# Altium schematic symbol library Connectors.SchLib: 114 symbols (part 1 of 2)
Pins are listed as number, name and electrical type; pins without a type are passive.

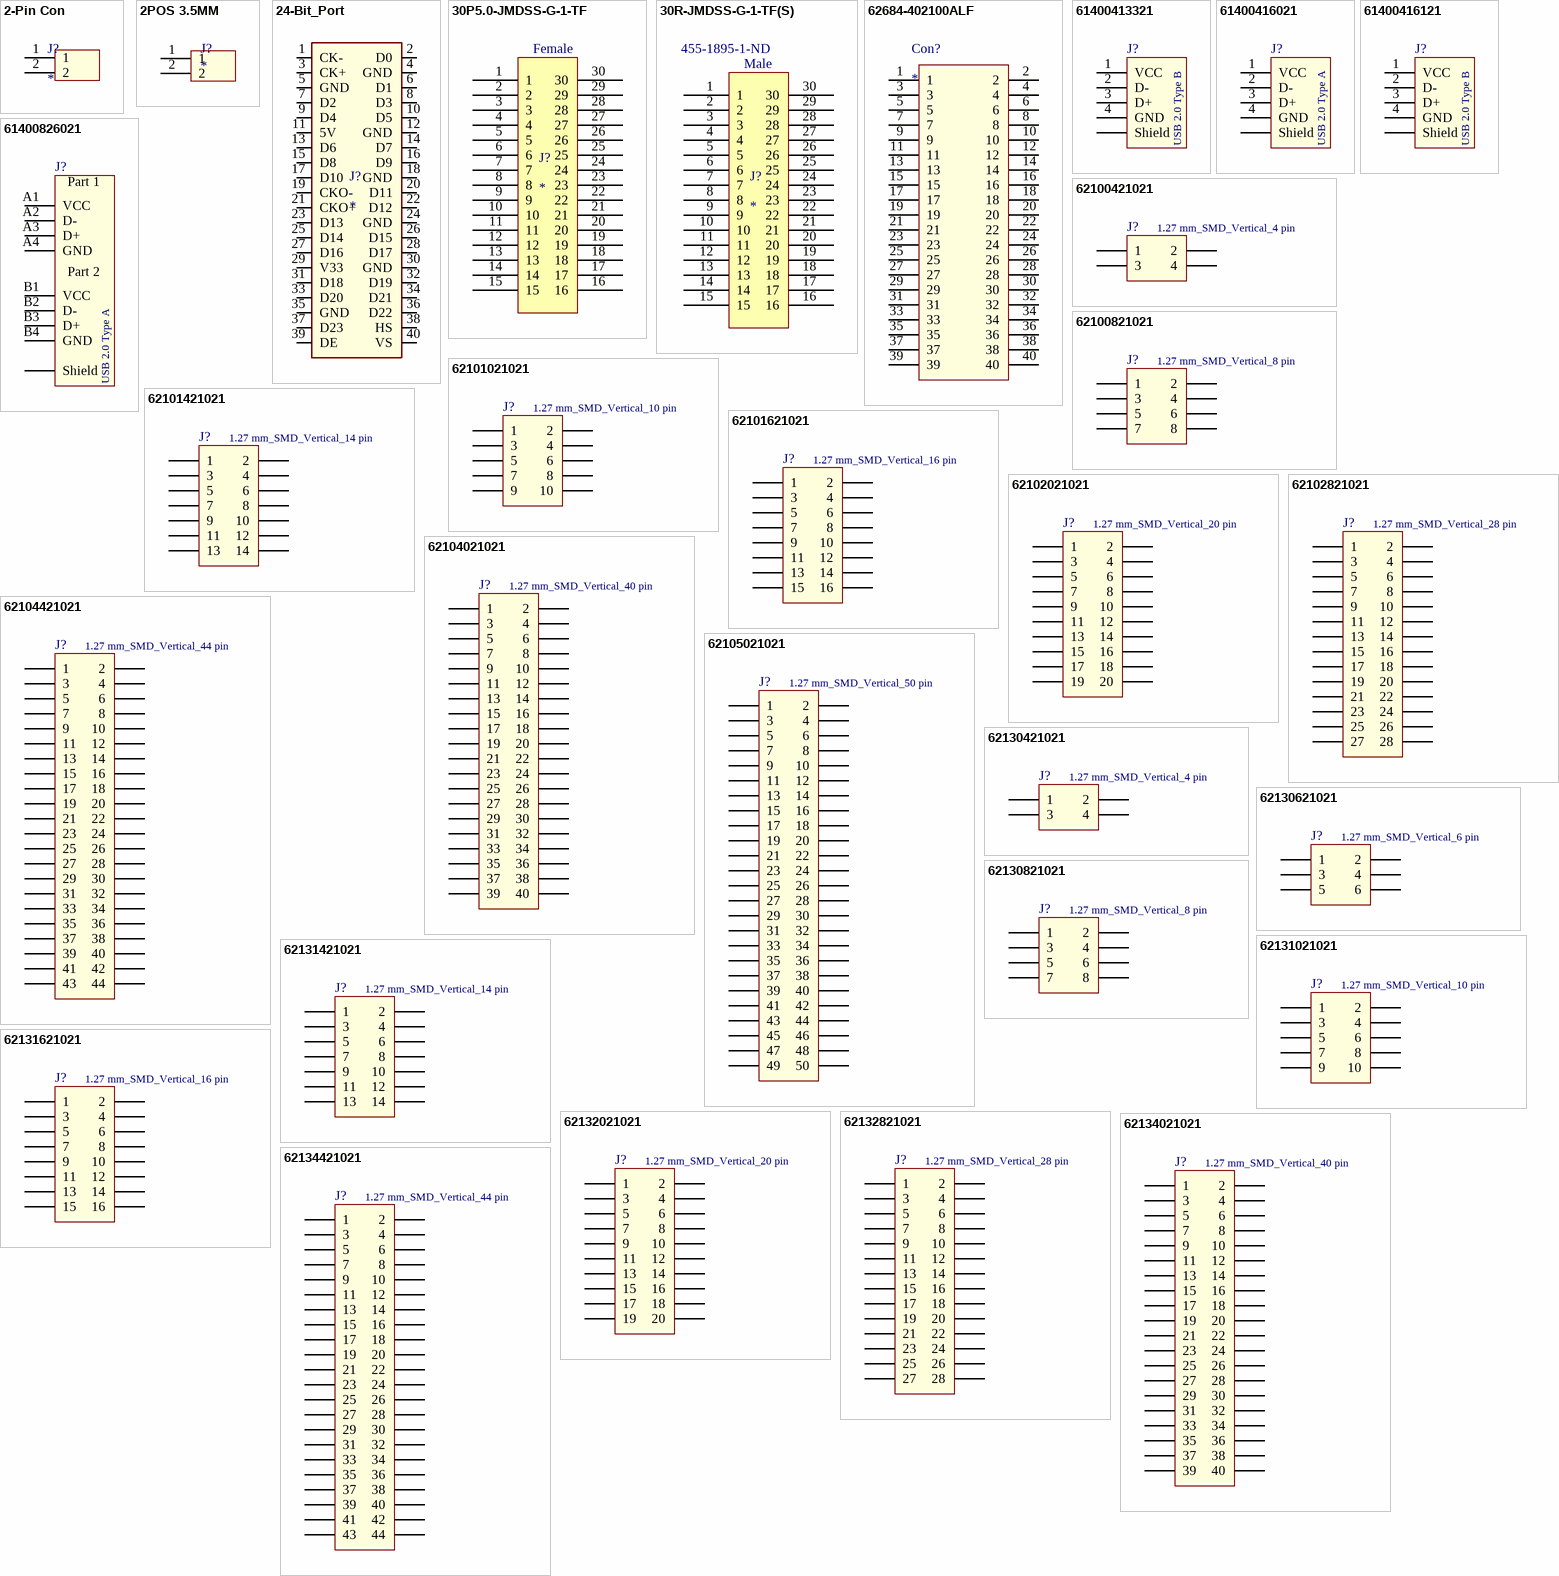
[diagram p0: symbols 2-Pin Con to 62134421021]

## 2-Pin Con
designator J?
footprint JST_S2B-XH-A(LF)(SN)
pins: 1, 2

## 2POS 3.5MM
designator J?
footprint 1-2834019-2
pins: 1, 2

## 24-Bit_Port
designator J?
footprint Header_40_pin
footprint Header_40_pin
pins: 1 CK-, 2 D0, 3 CK+, 4 GND, 5 GND, 6 D1, 7 D2, 8 D3, 9 D4, 10 D5, 11 5V, 12 GND, 13 D6, 14 D7, 15 D8, 16 D9, 17 D10, 18 GND, 19 CKO-, 20 D11, 21 CKO+, 22 D12, 23 D13, 24 GND, 25 D14, 26 D15, 27 D16, 28 D17, 29 V33, 30 GND, 31 D18, 32 D19, 33 D20, 34 D21, 35 GND, 36 D22, 37 D23, 38 HS, 39 DE, 40 VS

## 30P5.0-JMDSS-G-1-TF
designator J?
footprint 30P5.0-JMDSS-G-1-TF
pins: 1, 2, 3, 4, 5, 6, 7, 8, 9, 10, 11, 12, 13, 14, 15, 16, 17, 18, 19, 20, 21, 22, 23, 24, 25, 26, 27, 28, 29, 30
text: Female

## 30R-JMDSS-G-1-TF(S)
designator J?  Supplier Part Number 1: 455-1895-1-ND
Supplier 1: Digi-Key
footprint 30R-JMDSS-G-1-TF(S) (JST Connector)
pins: 1, 2, 3, 4, 5, 6, 7, 8, 9, 10, 11, 12, 13, 14, 15, 16, 17, 18, 19, 20, 21, 22, 23, 24, 25, 26, 27, 28, 29, 30
text: Male

## 62684-402100ALF
designator Con?
footprint 62684-402100ALF
pins: 1, 2, 3, 4, 5, 6, 7, 8, 9, 10, 11, 12, 13, 14, 15, 16, 17, 18, 19, 20, 21, 22, 23, 24, 25, 26, 27, 28, 29, 30, 31, 32, 33, 34, 35, 36, 37, 38, 39, 40

## 61400413321
designator J?
USB 2.0 Type B Vertical WR-COM; Part Number: 61400413321; Interface Type: Type B; Sub-Family: USB 2.0; Gender: Receptacle; ComponentLink1Description: Manufacturer; ComponentLink1URL: http://www.we-online.de; ComponentLink2Description: Datasheet; ComponentLink2URL: http://katalog.we-online.de/em/datasheet/61400413321.pdf; Published Date: April 2017; Publisher: Wurth Elektronik; Type: Vertical; Construction: THT
footprint 61400413321 (USB 2.0 Type B Vertical)
pins: 1 VCC, 2 D-, 3 D+, 4 GND, Shell Shield
text: USB 2.0 Type B

## 61400416021
designator J?
USB 2.0 Type A Horizontal WR-COM; Part Number: 61400416021; Interface Type: Type A; Sub-Family: USB 2.0; Gender: Receptacle; ComponentLink1Description: Manufacturer; ComponentLink1URL: http://www.we-online.de; ComponentLink2Description: Datasheet; ComponentLink2URL: http://katalog.we-online.de/em/datasheet/61400416021.pdf; Published Date: April 2017; Publisher: Wurth Elektronik; Type: Horizontal; Construction: THT
footprint 61400416021 (USB 2.0 Type A Horizontal)
pins: 1 VCC, 2 D-, 3 D+, 4 GND, Shell Shield
text: USB 2.0 Type A

## 61400416121
designator J?
USB 2.0 Type B Horizontal WR-COM; Part Number: 61400416121; Interface Type: Type B; Sub-Family: USB 2.0; Gender: Receptacle; ComponentLink1Description: Manufacturer; ComponentLink1URL: http://www.we-online.de; ComponentLink2Description: Datasheet; ComponentLink2URL: http://katalog.we-online.de/em/datasheet/61400416121.pdf; Published Date: April 2017; Publisher: Wurth Elektronik; Type: Horizontal; Construction: THT
footprint 61400416121 (USB 2.0 Type B Horizontal)
pins: 1 VCC, 2 D-, 3 D+, 4 GND, Shell Shield
text: USB 2.0 Type B

## 61400826021
designator J?
USB 2.0 Type A Horizontal Dual Stacked WR-COM; Part Number: 61400826021; Interface Type: Type A; Sub-Family: USB 2.0; Gender: Receptacle; ComponentLink1Description: Manufacturer; ComponentLink1URL: http://www.we-online.de; ComponentLink2Description: Datasheet; ComponentLink2URL: http://katalog.we-online.de/em/datasheet/61400826021.pdf; Published Date: April 2017; Publisher: Wurth Elektronik; Type: Stacked Horizontal; Construction: THT
footprint 61400826021 (USB 2.0 Type A Horizontal Dual Stacked)
pins: A1 VCC, A2 D-, A3 D+, A4 GND, B1 VCC, B2 D-, B3 D+, B4 GND, Shell Shield
text: Part 1; Part 2; USB 2.0 Type A

## 62100421021
designator J?, comment 1.27 mm_SMD_Vertical_4 pin
Pin Header WR-PHD, pitch 1.27 mm, SMD, Vertical, dual row, 4 pin; Part Number: 62100421021; Rated Current: 1 A; Pin Number: 4; Pitch: 1.27 mm; Working Voltage: 100 VAC; Contact Resistance: 20 mOhm; Insulation Resistance: >1000 MOhm; ComponentLink1Description: Manufacturer; ComponentLink1URL: http://www.we-online.de; ComponentLink2Description: Datasheet; ComponentLink2URL: http://katalog.we-online.de/em/datasheet/62100421021.pdf; Published Date: Jan. 2018; Publisher: Wurth Elektronik; Operating Temperature: -40 to 105 degC; Mounting Technology: SMD; Row Number: Dual; Orientation: Vertical
footprint 62100421021
pins: 1, 2, 3, 4

## 62100821021
designator J?, comment 1.27 mm_SMD_Vertical_8 pin
Pin Header WR-PHD, pitch 1.27 mm, SMD, Vertical, dual row, 8 pin; Part Number: 62100821021; Rated Current: 1 A; Pin Number: 8; Pitch: 1.27 mm; Working Voltage: 100 VAC; Contact Resistance: 20 mOhm; Insulation Resistance: >1000 MOhm; ComponentLink1Description: Manufacturer; ComponentLink1URL: http://www.we-online.de; ComponentLink2Description: Datasheet; ComponentLink2URL: http://katalog.we-online.de/em/datasheet/62100821021.pdf; Published Date: Jan. 2018; Publisher: Wurth Elektronik; Operating Temperature: -40 to 105 degC; Mounting Technology: SMD; Row Number: Dual; Orientation: Vertical
footprint 62100821021
pins: 1, 2, 3, 4, 5, 6, 7, 8

## 62101021021
designator J?, comment 1.27 mm_SMD_Vertical_10 pin
Pin Header WR-PHD, pitch 1.27 mm, SMD, Vertical, dual row, 10 pin; Part Number: 62101021021; Rated Current: 1 A; Pin Number: 10; Pitch: 1.27 mm; Working Voltage: 100 VAC; Contact Resistance: 20 mOhm; Insulation Resistance: >1000 MOhm; ComponentLink1Description: Manufacturer; ComponentLink1URL: http://www.we-online.de; ComponentLink2Description: Datasheet; ComponentLink2URL: http://katalog.we-online.de/em/datasheet/62101021021.pdf; Published Date: Jan. 2018; Publisher: Wurth Elektronik; Operating Temperature: -40 to 105 degC; Mounting Technology: SMD; Row Number: Dual; Orientation: Vertical
footprint 62101021021
pins: 1, 2, 3, 4, 5, 6, 7, 8, 9, 10

## 62101421021
designator J?, comment 1.27 mm_SMD_Vertical_14 pin
Pin Header WR-PHD, pitch 1.27 mm, SMD, Vertical, dual row, 14 pin; Part Number: 62101421021; Rated Current: 1 A; Pin Number: 14; Pitch: 1.27 mm; Working Voltage: 100 VAC; Contact Resistance: 20 mOhm; Insulation Resistance: >1000 MOhm; ComponentLink1Description: Manufacturer; ComponentLink1URL: http://www.we-online.de; ComponentLink2Description: Datasheet; ComponentLink2URL: http://katalog.we-online.de/em/datasheet/62101421021.pdf; Published Date: Jan. 2018; Publisher: Wurth Elektronik; Operating Temperature: -40 to 105 degC; Mounting Technology: SMD; Row Number: Dual; Orientation: Vertical
footprint 62101421021
pins: 1, 2, 3, 4, 5, 6, 7, 8, 9, 10, 11, 12, 13, 14

## 62101621021
designator J?, comment 1.27 mm_SMD_Vertical_16 pin
Pin Header WR-PHD, pitch 1.27 mm, SMD, Vertical, dual row, 16 pin; Part Number: 62101621021; Rated Current: 1 A; Pin Number: 16; Pitch: 1.27 mm; Working Voltage: 100 VAC; Contact Resistance: 20 mOhm; Insulation Resistance: >1000 MOhm; ComponentLink1Description: Manufacturer; ComponentLink1URL: http://www.we-online.de; ComponentLink2Description: Datasheet; ComponentLink2URL: http://katalog.we-online.de/em/datasheet/62101621021.pdf; Published Date: Jan. 2018; Publisher: Wurth Elektronik; Operating Temperature: -40 to 105 degC; Mounting Technology: SMD; Row Number: Dual; Orientation: Vertical
footprint 62101621021
pins: 1, 2, 3, 4, 5, 6, 7, 8, 9, 10, 11, 12, 13, 14, 15, 16

## 62102021021
designator J?, comment 1.27 mm_SMD_Vertical_20 pin
Pin Header WR-PHD, pitch 1.27 mm, SMD, Vertical, dual row, 20 pin; Part Number: 62102021021; Rated Current: 1 A; Pin Number: 20; Pitch: 1.27 mm; Working Voltage: 100 VAC; Contact Resistance: 20 mOhm; Insulation Resistance: >1000 MOhm; ComponentLink1Description: Manufacturer; ComponentLink1URL: http://www.we-online.de; ComponentLink2Description: Datasheet; ComponentLink2URL: http://katalog.we-online.de/em/datasheet/62102021021.pdf; Published Date: Jan. 2018; Publisher: Wurth Elektronik; Operating Temperature: -40 to 105 degC; Mounting Technology: SMD; Row Number: Dual; Orientation: Vertical
footprint 62102021021
pins: 1, 2, 3, 4, 5, 6, 7, 8, 9, 10, 11, 12, 13, 14, 15, 16, 17, 18, 19, 20

## 62102821021
designator J?, comment 1.27 mm_SMD_Vertical_28 pin
Pin Header WR-PHD, pitch 1.27 mm, SMD, Vertical, dual row, 28 pin; Part Number: 62102821021; Rated Current: 1 A; Pin Number: 28; Pitch: 1.27 mm; Working Voltage: 100 VAC; Contact Resistance: 20 mOhm; Insulation Resistance: >1000 MOhm; ComponentLink1Description: Manufacturer; ComponentLink1URL: http://www.we-online.de; ComponentLink2Description: Datasheet; ComponentLink2URL: http://katalog.we-online.de/em/datasheet/62102821021.pdf; Published Date: Jan. 2018; Publisher: Wurth Elektronik; Operating Temperature: -40 to 105 degC; Mounting Technology: SMD; Row Number: Dual; Orientation: Vertical
footprint 62102821021
pins: 1, 2, 3, 4, 5, 6, 7, 8, 9, 10, 11, 12, 13, 14, 15, 16, 17, 18, 19, 20, 21, 22, 23, 24, 25, 26, 27, 28

## 62104021021
designator J?, comment 1.27 mm_SMD_Vertical_40 pin
Pin Header WR-PHD, pitch 1.27 mm, SMD, Vertical, dual row, 40 pin; Part Number: 62104021021; Rated Current: 1 A; Pin Number: 40; Pitch: 1.27 mm; Working Voltage: 100 VAC; Contact Resistance: 20 mOhm; Insulation Resistance: >1000 MOhm; ComponentLink1Description: Manufacturer; ComponentLink1URL: http://www.we-online.de; ComponentLink2Description: Datasheet; ComponentLink2URL: http://katalog.we-online.de/em/datasheet/62104021021.pdf; Published Date: Jan. 2018; Publisher: Wurth Elektronik; Operating Temperature: -40 to 105 degC; Mounting Technology: SMD; Row Number: Dual; Orientation: Vertical
footprint 62104021021
pins: 1, 2, 3, 4, 5, 6, 7, 8, 9, 10, 11, 12, 13, 14, 15, 16, 17, 18, 19, 20, 21, 22, 23, 24, 25, 26, 27, 28, 29, 30, 31, 32, 33, 34, 35, 36, 37, 38, 39, 40

## 62104421021
designator J?, comment 1.27 mm_SMD_Vertical_44 pin
Pin Header WR-PHD, pitch 1.27 mm, SMD, Vertical, dual row, 44 pin; Part Number: 62104421021; Rated Current: 1 A; Pin Number: 44; Pitch: 1.27 mm; Working Voltage: 100 VAC; Contact Resistance: 20 mOhm; Insulation Resistance: >1000 MOhm; ComponentLink1Description: Manufacturer; ComponentLink1URL: http://www.we-online.de; ComponentLink2Description: Datasheet; ComponentLink2URL: http://katalog.we-online.de/em/datasheet/62104421021.pdf; Published Date: Jan. 2018; Publisher: Wurth Elektronik; Operating Temperature: -40 to 105 degC; Mounting Technology: SMD; Row Number: Dual; Orientation: Vertical
footprint 62104421021
pins: 1, 2, 3, 4, 5, 6, 7, 8, 9, 10, 11, 12, 13, 14, 15, 16, 17, 18, 19, 20, 21, 22, 23, 24, 25, 26, 27, 28, 29, 30, 31, 32, 33, 34, 35, 36, 37, 38, 39, 40, 41, 42, 43, 44

## 62105021021
designator J?, comment 1.27 mm_SMD_Vertical_50 pin
Pin Header WR-PHD, pitch 1.27 mm, SMD, Vertical, dual row, 50 pin; Part Number: 62105021021; Rated Current: 1 A; Pin Number: 50; Pitch: 1.27 mm; Working Voltage: 100 VAC; Contact Resistance: 20 mOhm; Insulation Resistance: >1000 MOhm; ComponentLink1Description: Manufacturer; ComponentLink1URL: http://www.we-online.de; ComponentLink2Description: Datasheet; ComponentLink2URL: http://katalog.we-online.de/em/datasheet/62105021021.pdf; Published Date: Jan. 2018; Publisher: Wurth Elektronik; Operating Temperature: -40 to 105 degC; Mounting Technology: SMD; Row Number: Dual; Orientation: Vertical
footprint 62105021021
pins: 1, 2, 3, 4, 5, 6, 7, 8, 9, 10, 11, 12, 13, 14, 15, 16, 17, 18, 19, 20, 21, 22, 23, 24, 25, 26, 27, 28, 29, 30, 31, 32, 33, 34, 35, 36, 37, 38, 39, 40, 41, 42, 43, 44, 45, 46, 47, 48, 49, 50

## 62130421021
designator J?, comment 1.27 mm_SMD_Vertical_4 pin
Pin Header WR-PHD, pitch 1.27 mm, SMD, Vertical, dual row, 4 pin; Part Number: 62130421021; Rated Current: 1 A; Pin Number: 4; Pitch: 1.27 mm; Working Voltage: 100 VAC; Contact Resistance: 20 mOhm; Insulation Resistance: >1000 MOhm; ComponentLink1Description: Manufacturer; ComponentLink1URL: http://www.we-online.de; ComponentLink2Description: Datasheet; ComponentLink2URL: http://katalog.we-online.de/em/datasheet/62130421021.pdf; Published Date: Jan. 2018; Publisher: Wurth Elektronik; Operating Temperature: -40 to 105 degC; Mounting Technology: SMD; Row Number: Dual; Orientation: Vertical
footprint 62130421021
pins: 1, 2, 3, 4

## 62130621021
designator J?, comment 1.27 mm_SMD_Vertical_6 pin
Pin Header WR-PHD, pitch 1.27 mm, SMD, Vertical, dual row, 6 pin; Part Number: 62130621021; Rated Current: 1 A; Pin Number: 6; Pitch: 1.27 mm; Working Voltage: 100 VAC; Contact Resistance: 20 mOhm; Insulation Resistance: >1000 MOhm; ComponentLink1Description: Manufacturer; ComponentLink1URL: http://www.we-online.de; ComponentLink2Description: Datasheet; ComponentLink2URL: http://katalog.we-online.de/em/datasheet/62130621021.pdf; Published Date: Jan. 2018; Publisher: Wurth Elektronik; Operating Temperature: -40 to 105 degC; Mounting Technology: SMD; Row Number: Dual; Orientation: Vertical
footprint 62130621021
pins: 1, 2, 3, 4, 5, 6

## 62130821021
designator J?, comment 1.27 mm_SMD_Vertical_8 pin
Pin Header WR-PHD, pitch 1.27 mm, SMD, Vertical, dual row, 8 pin; Part Number: 62130821021; Rated Current: 1 A; Pin Number: 8; Pitch: 1.27 mm; Working Voltage: 100 VAC; Contact Resistance: 20 mOhm; Insulation Resistance: >1000 MOhm; ComponentLink1Description: Manufacturer; ComponentLink1URL: http://www.we-online.de; ComponentLink2Description: Datasheet; ComponentLink2URL: http://katalog.we-online.de/em/datasheet/62130821021.pdf; Published Date: Jan. 2018; Publisher: Wurth Elektronik; Operating Temperature: -40 to 105 degC; Mounting Technology: SMD; Row Number: Dual; Orientation: Vertical
footprint 62130821021
pins: 1, 2, 3, 4, 5, 6, 7, 8

## 62131021021
designator J?, comment 1.27 mm_SMD_Vertical_10 pin
Pin Header WR-PHD, pitch 1.27 mm, SMD, Vertical, dual row, 10 pin; Part Number: 62131021021; Rated Current: 1 A; Pin Number: 10; Pitch: 1.27 mm; Working Voltage: 100 VAC; Contact Resistance: 20 mOhm; Insulation Resistance: >1000 MOhm; ComponentLink1Description: Manufacturer; ComponentLink1URL: http://www.we-online.de; ComponentLink2Description: Datasheet; ComponentLink2URL: http://katalog.we-online.de/em/datasheet/62131021021.pdf; Published Date: Jan. 2018; Publisher: Wurth Elektronik; Operating Temperature: -40 to 105 degC; Mounting Technology: SMD; Row Number: Dual; Orientation: Vertical
footprint 62131021021
pins: 1, 2, 3, 4, 5, 6, 7, 8, 9, 10

## 62131421021
designator J?, comment 1.27 mm_SMD_Vertical_14 pin
Pin Header WR-PHD, pitch 1.27 mm, SMD, Vertical, dual row, 14 pin; Part Number: 62131421021; Rated Current: 1 A; Pin Number: 14; Pitch: 1.27 mm; Working Voltage: 100 VAC; Contact Resistance: 20 mOhm; Insulation Resistance: >1000 MOhm; ComponentLink1Description: Manufacturer; ComponentLink1URL: http://www.we-online.de; ComponentLink2Description: Datasheet; ComponentLink2URL: http://katalog.we-online.de/em/datasheet/62131421021.pdf; Published Date: Jan. 2018; Publisher: Wurth Elektronik; Operating Temperature: -40 to 105 degC; Mounting Technology: SMD; Row Number: Dual; Orientation: Vertical
footprint 62131421021
pins: 1, 2, 3, 4, 5, 6, 7, 8, 9, 10, 11, 12, 13, 14

## 62131621021
designator J?, comment 1.27 mm_SMD_Vertical_16 pin
Pin Header WR-PHD, pitch 1.27 mm, SMD, Vertical, dual row, 16 pin; Part Number: 62131621021; Rated Current: 1 A; Pin Number: 16; Pitch: 1.27 mm; Working Voltage: 100 VAC; Contact Resistance: 20 mOhm; Insulation Resistance: >1000 MOhm; ComponentLink1Description: Manufacturer; ComponentLink1URL: http://www.we-online.de; ComponentLink2Description: Datasheet; ComponentLink2URL: http://katalog.we-online.de/em/datasheet/62131621021.pdf; Published Date: Jan. 2018; Publisher: Wurth Elektronik; Operating Temperature: -40 to 105 degC; Mounting Technology: SMD; Row Number: Dual; Orientation: Vertical
footprint 62131621021
pins: 1, 2, 3, 4, 5, 6, 7, 8, 9, 10, 11, 12, 13, 14, 15, 16

## 62132021021
designator J?, comment 1.27 mm_SMD_Vertical_20 pin
Pin Header WR-PHD, pitch 1.27 mm, SMD, Vertical, dual row, 20 pin; Part Number: 62132021021; Rated Current: 1 A; Pin Number: 20; Pitch: 1.27 mm; Working Voltage: 100 VAC; Contact Resistance: 20 mOhm; Insulation Resistance: >1000 MOhm; ComponentLink1Description: Manufacturer; ComponentLink1URL: http://www.we-online.de; ComponentLink2Description: Datasheet; ComponentLink2URL: http://katalog.we-online.de/em/datasheet/62132021021.pdf; Published Date: Jan. 2018; Publisher: Wurth Elektronik; Operating Temperature: -40 to 105 degC; Mounting Technology: SMD; Row Number: Dual; Orientation: Vertical
footprint 62132021021
pins: 1, 2, 3, 4, 5, 6, 7, 8, 9, 10, 11, 12, 13, 14, 15, 16, 17, 18, 19, 20

## 62132821021
designator J?, comment 1.27 mm_SMD_Vertical_28 pin
Pin Header WR-PHD, pitch 1.27 mm, SMD, Vertical, dual row, 28 pin; Part Number: 62132821021; Rated Current: 1 A; Pin Number: 28; Pitch: 1.27 mm; Working Voltage: 100 VAC; Contact Resistance: 20 mOhm; Insulation Resistance: >1000 MOhm; ComponentLink1Description: Manufacturer; ComponentLink1URL: http://www.we-online.de; ComponentLink2Description: Datasheet; ComponentLink2URL: http://katalog.we-online.de/em/datasheet/62132821021.pdf; Published Date: Jan. 2018; Publisher: Wurth Elektronik; Operating Temperature: -40 to 105 degC; Mounting Technology: SMD; Row Number: Dual; Orientation: Vertical
footprint 62132821021
pins: 1, 2, 3, 4, 5, 6, 7, 8, 9, 10, 11, 12, 13, 14, 15, 16, 17, 18, 19, 20, 21, 22, 23, 24, 25, 26, 27, 28

## 62134021021
designator J?, comment 1.27 mm_SMD_Vertical_40 pin
Pin Header WR-PHD, pitch 1.27 mm, SMD, Vertical, dual row, 40 pin; Part Number: 62134021021; Rated Current: 1 A; Pin Number: 40; Pitch: 1.27 mm; Working Voltage: 100 VAC; Contact Resistance: 20 mOhm; Insulation Resistance: >1000 MOhm; ComponentLink1Description: Manufacturer; ComponentLink1URL: http://www.we-online.de; ComponentLink2Description: Datasheet; ComponentLink2URL: http://katalog.we-online.de/em/datasheet/62134021021.pdf; Published Date: Jan. 2018; Publisher: Wurth Elektronik; Operating Temperature: -40 to 105 degC; Mounting Technology: SMD; Row Number: Dual; Orientation: Vertical
footprint 62134021021
pins: 1, 2, 3, 4, 5, 6, 7, 8, 9, 10, 11, 12, 13, 14, 15, 16, 17, 18, 19, 20, 21, 22, 23, 24, 25, 26, 27, 28, 29, 30, 31, 32, 33, 34, 35, 36, 37, 38, 39, 40

## 62134421021
designator J?, comment 1.27 mm_SMD_Vertical_44 pin
Pin Header WR-PHD, pitch 1.27 mm, SMD, Vertical, dual row, 44 pin; Part Number: 62134421021; Rated Current: 1 A; Pin Number: 44; Pitch: 1.27 mm; Working Voltage: 100 VAC; Contact Resistance: 20 mOhm; Insulation Resistance: >1000 MOhm; ComponentLink1Description: Manufacturer; ComponentLink1URL: http://www.we-online.de; ComponentLink2Description: Datasheet; ComponentLink2URL: http://katalog.we-online.de/em/datasheet/62134421021.pdf; Published Date: Jan. 2018; Publisher: Wurth Elektronik; Operating Temperature: -40 to 105 degC; Mounting Technology: SMD; Row Number: Dual; Orientation: Vertical
footprint 62134421021
pins: 1, 2, 3, 4, 5, 6, 7, 8, 9, 10, 11, 12, 13, 14, 15, 16, 17, 18, 19, 20, 21, 22, 23, 24, 25, 26, 27, 28, 29, 30, 31, 32, 33, 34, 35, 36, 37, 38, 39, 40, 41, 42, 43, 44

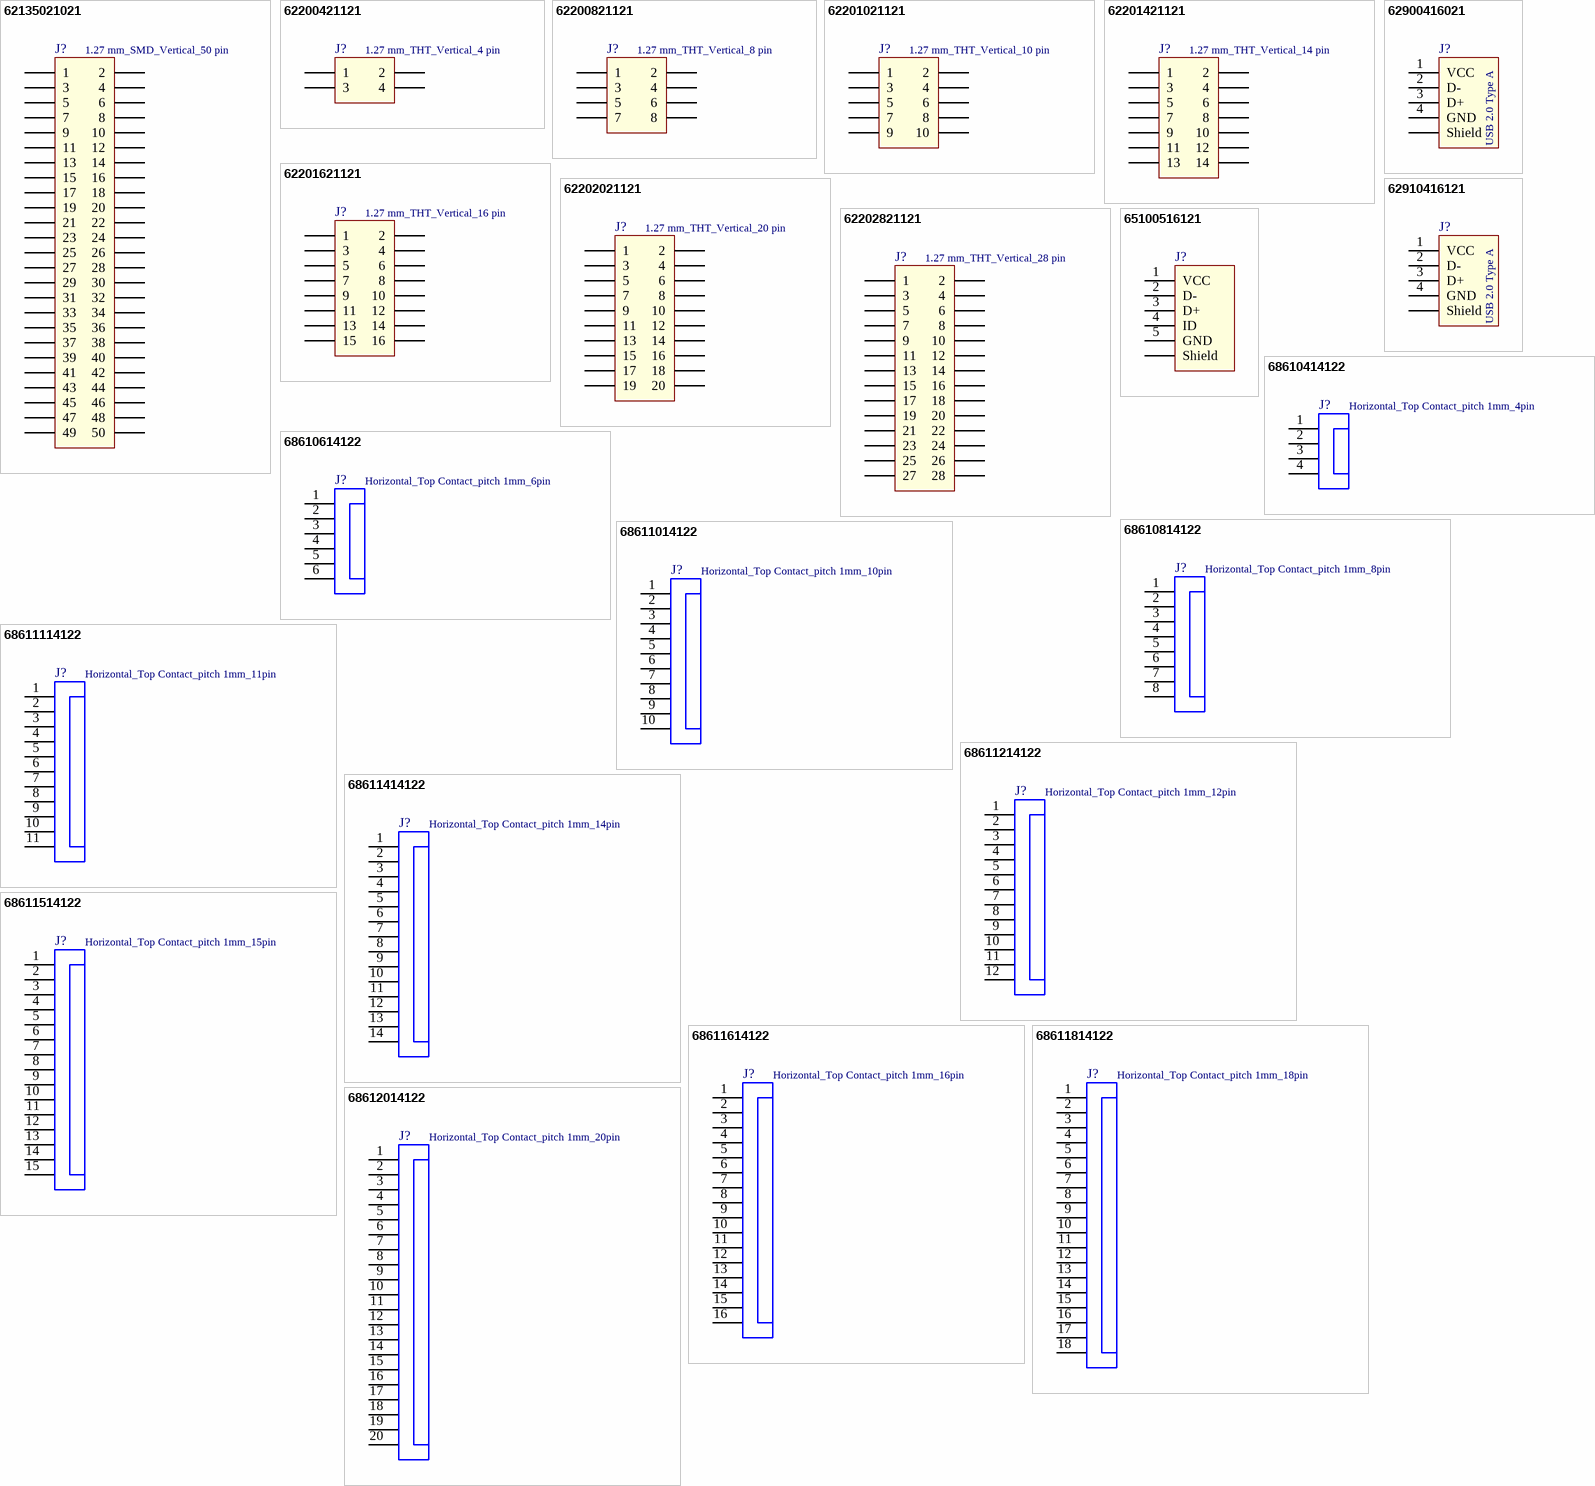
[diagram p1: symbols 62135021021 to 68612014122]

## 62135021021
designator J?, comment 1.27 mm_SMD_Vertical_50 pin
Pin Header WR-PHD, pitch 1.27 mm, SMD, Vertical, dual row, 50 pin; Part Number: 62135021021; Rated Current: 1 A; Pin Number: 50; Pitch: 1.27 mm; Working Voltage: 100 VAC; Contact Resistance: 20 mOhm; Insulation Resistance: >1000 MOhm; ComponentLink1Description: Manufacturer; ComponentLink1URL: http://www.we-online.de; ComponentLink2Description: Datasheet; ComponentLink2URL: http://katalog.we-online.de/em/datasheet/62135021021.pdf; Published Date: Jan. 2018; Publisher: Wurth Elektronik; Operating Temperature: -40 to 105 degC; Mounting Technology: SMD; Row Number: Dual; Orientation: Vertical
footprint 62135021021
pins: 1, 2, 3, 4, 5, 6, 7, 8, 9, 10, 11, 12, 13, 14, 15, 16, 17, 18, 19, 20, 21, 22, 23, 24, 25, 26, 27, 28, 29, 30, 31, 32, 33, 34, 35, 36, 37, 38, 39, 40, 41, 42, 43, 44, 45, 46, 47, 48, 49, 50

## 62200421121
designator J?, comment 1.27 mm_THT_Vertical_4 pin
Pin Header WR-PHD, pitch 1.27 mm, THT, Vertical, dual row, 4 pin; Part Number: 62200421121; Rated Current: 1 A; Pin Number: 4; Pitch: 1.27 mm; Working Voltage: 100 VAC; Contact Resistance: 20 mOhm; Insulation Resistance: >1000 MOhm; ComponentLink1Description: Manufacturer; ComponentLink1URL: http://www.we-online.de; ComponentLink2Description: Datasheet; ComponentLink2URL: http://katalog.we-online.de/em/datasheet/62200421121.pdf; Published Date: Jan. 2018; Publisher: Wurth Elektronik; Operating Temperature: -40 to 105 degC; Mounting Technology: THT; Row Number: Dual; Orientation: Vertical
footprint 62200421121
pins: 1, 2, 3, 4

## 62200821121
designator J?, comment 1.27 mm_THT_Vertical_8 pin
Pin Header WR-PHD, pitch 1.27 mm, THT, Vertical, dual row, 8 pin; Part Number: 62200821121; Rated Current: 1 A; Pin Number: 8; Pitch: 1.27 mm; Working Voltage: 100 VAC; Contact Resistance: 20 mOhm; Insulation Resistance: >1000 MOhm; ComponentLink1Description: Manufacturer; ComponentLink1URL: http://www.we-online.de; ComponentLink2Description: Datasheet; ComponentLink2URL: http://katalog.we-online.de/em/datasheet/62200821121.pdf; Published Date: Jan. 2018; Publisher: Wurth Elektronik; Operating Temperature: -40 to 105 degC; Mounting Technology: THT; Row Number: Dual; Orientation: Vertical
footprint 62200821121
pins: 1, 2, 3, 4, 5, 6, 7, 8

## 62201021121
designator J?, comment 1.27 mm_THT_Vertical_10 pin
Pin Header WR-PHD, pitch 1.27 mm, THT, Vertical, dual row, 10 pin; Part Number: 62201021121; Rated Current: 1 A; Pin Number: 10; Pitch: 1.27 mm; Working Voltage: 100 VAC; Contact Resistance: 20 mOhm; Insulation Resistance: >1000 MOhm; ComponentLink1Description: Manufacturer; ComponentLink1URL: http://www.we-online.de; ComponentLink2Description: Datasheet; ComponentLink2URL: http://katalog.we-online.de/em/datasheet/62201021121.pdf; Published Date: Jan. 2018; Publisher: Wurth Elektronik; Operating Temperature: -40 to 105 degC; Mounting Technology: THT; Row Number: Dual; Orientation: Vertical
footprint 62201021121
pins: 1, 2, 3, 4, 5, 6, 7, 8, 9, 10

## 62201421121
designator J?, comment 1.27 mm_THT_Vertical_14 pin
Pin Header WR-PHD, pitch 1.27 mm, THT, Vertical, dual row, 14 pin; Part Number: 62201421121; Rated Current: 1 A; Pin Number: 14; Pitch: 1.27 mm; Working Voltage: 100 VAC; Contact Resistance: 20 mOhm; Insulation Resistance: >1000 MOhm; ComponentLink1Description: Manufacturer; ComponentLink1URL: http://www.we-online.de; ComponentLink2Description: Datasheet; ComponentLink2URL: http://katalog.we-online.de/em/datasheet/62201421121.pdf; Published Date: Jan. 2018; Publisher: Wurth Elektronik; Operating Temperature: -40 to 105 degC; Mounting Technology: THT; Row Number: Dual; Orientation: Vertical
footprint 62201421121
pins: 1, 2, 3, 4, 5, 6, 7, 8, 9, 10, 11, 12, 13, 14

## 62201621121
designator J?, comment 1.27 mm_THT_Vertical_16 pin
Pin Header WR-PHD, pitch 1.27 mm, THT, Vertical, dual row, 16 pin; Part Number: 62201621121; Rated Current: 1 A; Pin Number: 16; Pitch: 1.27 mm; Working Voltage: 100 VAC; Contact Resistance: 20 mOhm; Insulation Resistance: >1000 MOhm; ComponentLink1Description: Manufacturer; ComponentLink1URL: http://www.we-online.de; ComponentLink2Description: Datasheet; ComponentLink2URL: http://katalog.we-online.de/em/datasheet/62201621121.pdf; Published Date: Jan. 2018; Publisher: Wurth Elektronik; Operating Temperature: -40 to 105 degC; Mounting Technology: THT; Row Number: Dual; Orientation: Vertical
footprint 62201621121
pins: 1, 2, 3, 4, 5, 6, 7, 8, 9, 10, 11, 12, 13, 14, 15, 16

## 62202021121
designator J?, comment 1.27 mm_THT_Vertical_20 pin
Pin Header WR-PHD, pitch 1.27 mm, THT, Vertical, dual row, 20 pin; Part Number: 62202021121; Rated Current: 1 A; Pin Number: 20; Pitch: 1.27 mm; Working Voltage: 100 VAC; Contact Resistance: 20 mOhm; Insulation Resistance: >1000 MOhm; ComponentLink1Description: Manufacturer; ComponentLink1URL: http://www.we-online.de; ComponentLink2Description: Datasheet; ComponentLink2URL: http://katalog.we-online.de/em/datasheet/62202021121.pdf; Published Date: Jan. 2018; Publisher: Wurth Elektronik; Operating Temperature: -40 to 105 degC; Mounting Technology: THT; Row Number: Dual; Orientation: Vertical
footprint 62202021121
pins: 1, 2, 3, 4, 5, 6, 7, 8, 9, 10, 11, 12, 13, 14, 15, 16, 17, 18, 19, 20

## 62202821121
designator J?, comment 1.27 mm_THT_Vertical_28 pin
Pin Header WR-PHD, pitch 1.27 mm, THT, Vertical, dual row, 28 pin; Part Number: 62202821121; Rated Current: 1 A; Pin Number: 28; Pitch: 1.27 mm; Working Voltage: 100 VAC; Contact Resistance: 20 mOhm; Insulation Resistance: >1000 MOhm; ComponentLink1Description: Manufacturer; ComponentLink1URL: http://www.we-online.de; ComponentLink2Description: Datasheet; ComponentLink2URL: http://katalog.we-online.de/em/datasheet/62202821121.pdf; Published Date: Jan. 2018; Publisher: Wurth Elektronik; Operating Temperature: -40 to 105 degC; Mounting Technology: THT; Row Number: Dual; Orientation: Vertical
footprint 62202821121
pins: 1, 2, 3, 4, 5, 6, 7, 8, 9, 10, 11, 12, 13, 14, 15, 16, 17, 18, 19, 20, 21, 22, 23, 24, 25, 26, 27, 28

## 62900416021
designator J?
USB 2.0 SMT Type A Horizontal WR-COM; Part Number: 62900416021; Interface Type: Type A; Sub-Family: USB 2.0; Gender: Receptacle; ComponentLink1Description: Manufacturer; ComponentLink1URL: http://www.we-online.de; ComponentLink2Description: Datasheet; ComponentLink2URL: http://katalog.we-online.de/em/datasheet/62900416021.pdf; Published Date: April 2017; Publisher: Wurth Elektronik; Type: Horizontal; Construction: SMT
footprint 62900416021 (USB 2.0 SMT Type A Horizontal)
pins: 1 VCC, 2 D-, 3 D+, 4 GND, Shell Shield
text: USB 2.0 Type A

## 62910416121
designator J?
USB 2.0 Type B SMT Horizontal WR-COM; Part Number: 62910416121; Interface Type: Type B; Sub-Family: USB 2.0; Gender: Receptacle; ComponentLink1Description: Manufacturer; ComponentLink1URL: http://www.we-online.de; ComponentLink2Description: Datasheet; ComponentLink2URL: http://katalog.we-online.de/em/datasheet/62910416121.pdf; Published Date: April 2017; Publisher: Wurth Elektronik; Type: Horizontal; Construction: SMT
footprint 62910416121 (USB 2.0 Type B SMT Horizontal)
pins: 1 VCC, 2 D-, 3 D+, 4 GND, Shell Shield
text: USB 2.0 Type A

## 65100516121
designator J?
Mini USB 2.0 Type B SMT Horizontal 5 Contacts WR-COM; Part Number: 65100516121; Interface Type: Type B; Gender: Receptacle; ComponentLink1Description: Manufacturer; ComponentLink1URL: http://www.we-online.de; ComponentLink2Description: Datasheet; ComponentLink2URL: http://katalog.we-online.de/em/datasheet/65100516121.pdf; Published Date: April 2017; Publisher: Wurth Elektronik; Sub-Family: Mini USB 2.0; Type: Horizontal; Construction: SMT
footprint 65100516121
pins: 1 VCC, 2 D-, 3 D+, 4 ID, 5 GND, Shell Shield

## 68610414122
designator J?, comment Horizontal_Top Contact_pitch 1mm_4pin
ZIF Connectors WR-FPC, Horizontal, Top Contact, pitch 1mm, 4pin; Part Number: 68610414122; Rated Current: 1A; Pin Number: 4; Contact Resistance: 20mOhm; ComponentLink1Description: Manufacturer; ComponentLink1URL: http://www.we-online.de; ComponentLink2Description: Datasheet; ComponentLink2URL: http://katalog.we-online.de/em/datasheet/68610414122.pdf; Published Date: Jan. 2018; Publisher: Wurth Elektronik; Pitch: 1mm; Operating Temperature: -25 to 85 degC; Mounting Technology: SMT; Orientation: Horizontal; Contact Design: Top Contact
footprint 68610414122
pins: 1, 2, 3, 4

## 68610614122
designator J?, comment Horizontal_Top Contact_pitch 1mm_6pin
ZIF Connectors WR-FPC, Horizontal, Top Contact, pitch 1mm, 6pin; Part Number: 68610614122; Rated Current: 1A; Pin Number: 6; Contact Resistance: 20mOhm; ComponentLink1Description: Manufacturer; ComponentLink1URL: http://www.we-online.de; ComponentLink2Description: Datasheet; ComponentLink2URL: http://katalog.we-online.de/em/datasheet/68610614122.pdf; Published Date: Jan. 2018; Publisher: Wurth Elektronik; Pitch: 1mm; Operating Temperature: -25 to 85 degC; Mounting Technology: SMT; Orientation: Horizontal; Contact Design: Top Contact
footprint 68610614122
pins: 1, 2, 3, 4, 5, 6

## 68610814122
designator J?, comment Horizontal_Top Contact_pitch 1mm_8pin
ZIF Connectors WR-FPC, Horizontal, Top Contact, pitch 1mm, 8pin; Part Number: 68610814122; Rated Current: 1A; Pin Number: 8; Contact Resistance: 20mOhm; ComponentLink1Description: Manufacturer; ComponentLink1URL: http://www.we-online.de; ComponentLink2Description: Datasheet; ComponentLink2URL: http://katalog.we-online.de/em/datasheet/68610814122.pdf; Published Date: Jan. 2018; Publisher: Wurth Elektronik; Pitch: 1mm; Operating Temperature: -25 to 85 degC; Mounting Technology: SMT; Orientation: Horizontal; Contact Design: Top Contact
footprint 68610814122
pins: 1, 2, 3, 4, 5, 6, 7, 8

## 68611014122
designator J?, comment Horizontal_Top Contact_pitch 1mm_10pin
ZIF Connectors WR-FPC, Horizontal, Top Contact, pitch 1mm, 10pin; Part Number: 68611014122; Rated Current: 1A; Pin Number: 10; Contact Resistance: 20mOhm; ComponentLink1Description: Manufacturer; ComponentLink1URL: http://www.we-online.de; ComponentLink2Description: Datasheet; ComponentLink2URL: http://katalog.we-online.de/em/datasheet/68611014122.pdf; Published Date: Jan. 2018; Publisher: Wurth Elektronik; Pitch: 1mm; Operating Temperature: -25 to 85 degC; Mounting Technology: SMT; Orientation: Horizontal; Contact Design: Top Contact
footprint 68611014122
pins: 1, 2, 3, 4, 5, 6, 7, 8, 9, 10

## 68611114122
designator J?, comment Horizontal_Top Contact_pitch 1mm_11pin
ZIF Connectors WR-FPC, Horizontal, Top Contact, pitch 1mm, 11pin; Part Number: 68611114122; Rated Current: 1A; Pin Number: 11; Contact Resistance: 20mOhm; ComponentLink1Description: Manufacturer; ComponentLink1URL: http://www.we-online.de; ComponentLink2Description: Datasheet; ComponentLink2URL: http://katalog.we-online.de/em/datasheet/68611114122.pdf; Published Date: Jan. 2018; Publisher: Wurth Elektronik; Pitch: 1mm; Operating Temperature: -25 to 85 degC; Mounting Technology: SMT; Orientation: Horizontal; Contact Design: Top Contact
footprint 68611114122
pins: 1, 2, 3, 4, 5, 6, 7, 8, 9, 10, 11

## 68611214122
designator J?, comment Horizontal_Top Contact_pitch 1mm_12pin
ZIF Connectors WR-FPC, Horizontal, Top Contact, pitch 1mm, 12pin; Part Number: 68611214122; Rated Current: 1A; Pin Number: 12; Contact Resistance: 20mOhm; ComponentLink1Description: Manufacturer; ComponentLink1URL: http://www.we-online.de; ComponentLink2Description: Datasheet; ComponentLink2URL: http://katalog.we-online.de/em/datasheet/68611214122.pdf; Published Date: Jan. 2018; Publisher: Wurth Elektronik; Pitch: 1mm; Operating Temperature: -25 to 85 degC; Mounting Technology: SMT; Orientation: Horizontal; Contact Design: Top Contact
footprint 68611214122
pins: 1, 2, 3, 4, 5, 6, 7, 8, 9, 10, 11, 12

## 68611414122
designator J?, comment Horizontal_Top Contact_pitch 1mm_14pin
ZIF Connectors WR-FPC, Horizontal, Top Contact, pitch 1mm, 14pin; Part Number: 68611414122; Rated Current: 1A; Pin Number: 14; Contact Resistance: 20mOhm; ComponentLink1Description: Manufacturer; ComponentLink1URL: http://www.we-online.de; ComponentLink2Description: Datasheet; ComponentLink2URL: http://katalog.we-online.de/em/datasheet/68611414122.pdf; Published Date: Jan. 2018; Publisher: Wurth Elektronik; Pitch: 1mm; Operating Temperature: -25 to 85 degC; Mounting Technology: SMT; Orientation: Horizontal; Contact Design: Top Contact
footprint 68611414122
pins: 1, 2, 3, 4, 5, 6, 7, 8, 9, 10, 11, 12, 13, 14

## 68611514122
designator J?, comment Horizontal_Top Contact_pitch 1mm_15pin
ZIF Connectors WR-FPC, Horizontal, Top Contact, pitch 1mm, 15pin; Part Number: 68611514122; Rated Current: 1A; Pin Number: 15; Contact Resistance: 20mOhm; ComponentLink1Description: Manufacturer; ComponentLink1URL: http://www.we-online.de; ComponentLink2Description: Datasheet; ComponentLink2URL: http://katalog.we-online.de/em/datasheet/68611514122.pdf; Published Date: Jan. 2018; Publisher: Wurth Elektronik; Pitch: 1mm; Operating Temperature: -25 to 85 degC; Mounting Technology: SMT; Orientation: Horizontal; Contact Design: Top Contact
footprint 68611514122
pins: 1, 2, 3, 4, 5, 6, 7, 8, 9, 10, 11, 12, 13, 14, 15

## 68611614122
designator J?, comment Horizontal_Top Contact_pitch 1mm_16pin
ZIF Connectors WR-FPC, Horizontal, Top Contact, pitch 1mm, 16pin; Part Number: 68611614122; Rated Current: 1A; Pin Number: 16; Contact Resistance: 20mOhm; ComponentLink1Description: Manufacturer; ComponentLink1URL: http://www.we-online.de; ComponentLink2Description: Datasheet; ComponentLink2URL: http://katalog.we-online.de/em/datasheet/68611614122.pdf; Published Date: Jan. 2018; Publisher: Wurth Elektronik; Pitch: 1mm; Operating Temperature: -25 to 85 degC; Mounting Technology: SMT; Orientation: Horizontal; Contact Design: Top Contact
footprint 68611614122
pins: 1, 2, 3, 4, 5, 6, 7, 8, 9, 10, 11, 12, 13, 14, 15, 16

## 68611814122
designator J?, comment Horizontal_Top Contact_pitch 1mm_18pin
ZIF Connectors WR-FPC, Horizontal, Top Contact, pitch 1mm, 18pin; Part Number: 68611814122; Rated Current: 1A; Pin Number: 18; Contact Resistance: 20mOhm; ComponentLink1Description: Manufacturer; ComponentLink1URL: http://www.we-online.de; ComponentLink2Description: Datasheet; ComponentLink2URL: http://katalog.we-online.de/em/datasheet/68611814122.pdf; Published Date: Jan. 2018; Publisher: Wurth Elektronik; Pitch: 1mm; Operating Temperature: -25 to 85 degC; Mounting Technology: SMT; Orientation: Horizontal; Contact Design: Top Contact
footprint 68611814122
pins: 1, 2, 3, 4, 5, 6, 7, 8, 9, 10, 11, 12, 13, 14, 15, 16, 17, 18

## 68612014122
designator J?, comment Horizontal_Top Contact_pitch 1mm_20pin
ZIF Connectors WR-FPC, Horizontal, Top Contact, pitch 1mm, 20pin; Part Number: 68612014122; Rated Current: 1A; Pin Number: 20; Contact Resistance: 20mOhm; ComponentLink1Description: Manufacturer; ComponentLink1URL: http://www.we-online.de; ComponentLink2Description: Datasheet; ComponentLink2URL: http://katalog.we-online.de/em/datasheet/68612014122.pdf; Published Date: Jan. 2018; Publisher: Wurth Elektronik; Pitch: 1mm; Operating Temperature: -25 to 85 degC; Mounting Technology: SMT; Orientation: Horizontal; Contact Design: Top Contact
footprint 68612014122
pins: 1, 2, 3, 4, 5, 6, 7, 8, 9, 10, 11, 12, 13, 14, 15, 16, 17, 18, 19, 20

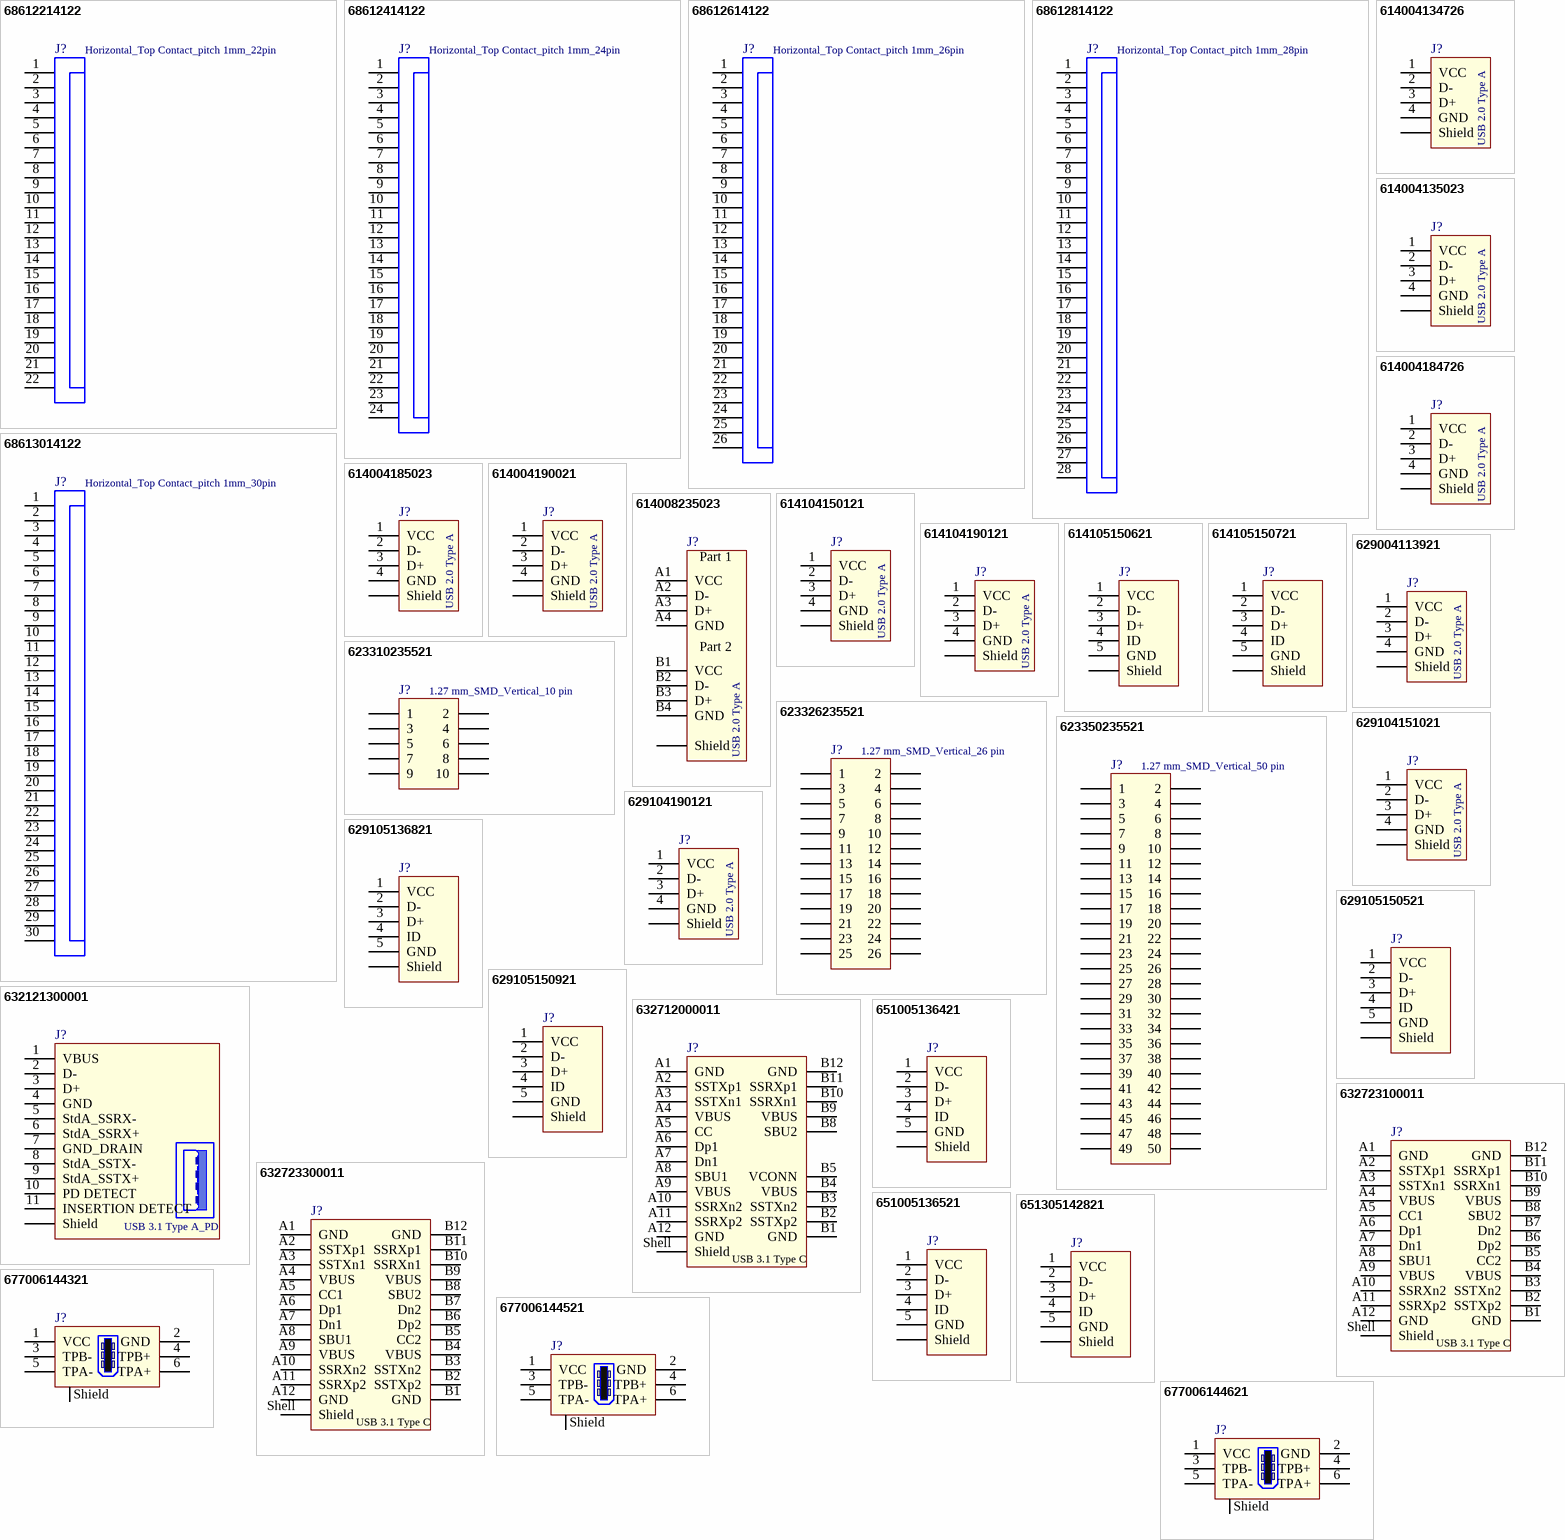
[diagram p2: symbols 68612214122 to 677006144621]

## 68612214122
designator J?, comment Horizontal_Top Contact_pitch 1mm_22pin
ZIF Connectors WR-FPC, Horizontal, Top Contact, pitch 1mm, 22pin; Part Number: 68612214122; Rated Current: 1A; Pin Number: 22; Contact Resistance: 20mOhm; ComponentLink1Description: Manufacturer; ComponentLink1URL: http://www.we-online.de; ComponentLink2Description: Datasheet; ComponentLink2URL: http://katalog.we-online.de/em/datasheet/68612214122.pdf; Published Date: Jan. 2018; Publisher: Wurth Elektronik; Pitch: 1mm; Operating Temperature: -25 to 85 degC; Mounting Technology: SMT; Orientation: Horizontal; Contact Design: Top Contact
footprint 68612214122
pins: 1, 2, 3, 4, 5, 6, 7, 8, 9, 10, 11, 12, 13, 14, 15, 16, 17, 18, 19, 20, 21, 22

## 68612414122
designator J?, comment Horizontal_Top Contact_pitch 1mm_24pin
ZIF Connectors WR-FPC, Horizontal, Top Contact, pitch 1mm, 24pin; Part Number: 68612414122; Rated Current: 1A; Pin Number: 24; Contact Resistance: 20mOhm; ComponentLink1Description: Manufacturer; ComponentLink1URL: http://www.we-online.de; ComponentLink2Description: Datasheet; ComponentLink2URL: http://katalog.we-online.de/em/datasheet/68612414122.pdf; Published Date: Jan. 2018; Publisher: Wurth Elektronik; Pitch: 1mm; Operating Temperature: -25 to 85 degC; Mounting Technology: SMT; Orientation: Horizontal; Contact Design: Top Contact
footprint 68612414122
pins: 1, 2, 3, 4, 5, 6, 7, 8, 9, 10, 11, 12, 13, 14, 15, 16, 17, 18, 19, 20, 21, 22, 23, 24

## 68612614122
designator J?, comment Horizontal_Top Contact_pitch 1mm_26pin
ZIF Connectors WR-FPC, Horizontal, Top Contact, pitch 1mm, 26pin; Part Number: 68612614122; Rated Current: 1A; Pin Number: 26; Contact Resistance: 20mOhm; ComponentLink1Description: Manufacturer; ComponentLink1URL: http://www.we-online.de; ComponentLink2Description: Datasheet; ComponentLink2URL: http://katalog.we-online.de/em/datasheet/68612614122.pdf; Published Date: Jan. 2018; Publisher: Wurth Elektronik; Pitch: 1mm; Operating Temperature: -25 to 85 degC; Mounting Technology: SMT; Orientation: Horizontal; Contact Design: Top Contact
footprint 68612614122
pins: 1, 2, 3, 4, 5, 6, 7, 8, 9, 10, 11, 12, 13, 14, 15, 16, 17, 18, 19, 20, 21, 22, 23, 24, 25, 26

## 68612814122
designator J?, comment Horizontal_Top Contact_pitch 1mm_28pin
ZIF Connectors WR-FPC, Horizontal, Top Contact, pitch 1mm, 28pin; Part Number: 68612814122; Rated Current: 1A; Pin Number: 28; Contact Resistance: 20mOhm; ComponentLink1Description: Manufacturer; ComponentLink1URL: http://www.we-online.de; ComponentLink2Description: Datasheet; ComponentLink2URL: http://katalog.we-online.de/em/datasheet/68612814122.pdf; Published Date: Jan. 2018; Publisher: Wurth Elektronik; Pitch: 1mm; Operating Temperature: -25 to 85 degC; Mounting Technology: SMT; Orientation: Horizontal; Contact Design: Top Contact
footprint 68612814122
pins: 1, 2, 3, 4, 5, 6, 7, 8, 9, 10, 11, 12, 13, 14, 15, 16, 17, 18, 19, 20, 21, 22, 23, 24, 25, 26, 27, 28

## 68613014122
designator J?, comment Horizontal_Top Contact_pitch 1mm_30pin
ZIF Connectors WR-FPC, Horizontal, Top Contact, pitch 1mm, 30pin; Part Number: 68613014122; Rated Current: 1A; Pin Number: 30; Contact Resistance: 20mOhm; ComponentLink1Description: Manufacturer; ComponentLink1URL: http://www.we-online.de; ComponentLink2Description: Datasheet; ComponentLink2URL: http://katalog.we-online.de/em/datasheet/68613014122.pdf; Published Date: Jan. 2018; Publisher: Wurth Elektronik; Pitch: 1mm; Operating Temperature: -25 to 85 degC; Mounting Technology: SMT; Orientation: Horizontal; Contact Design: Top Contact
footprint 68613014122
pins: 1, 2, 3, 4, 5, 6, 7, 8, 9, 10, 11, 12, 13, 14, 15, 16, 17, 18, 19, 20, 21, 22, 23, 24, 25, 26, 27, 28, 29, 30

## 614004134726
designator J?
USB 2.0 Type A Up Right WR-COM; Part Number: 614004134726; Interface Type: Type A; Sub-Family: USB 2.0; Gender: Receptacle; ComponentLink1Description: Manufacturer; ComponentLink1URL: http://www.we-online.de; ComponentLink2Description: Datasheet; ComponentLink2URL: http://katalog.we-online.de/em/datasheet/614004134726.pdf; Published Date: April 2017; Publisher: Wurth Elektronik; Type: Up Right; Construction: THT
footprint 614004134726 (USB 2.0 Type A Up Right)
pins: 1 VCC, 2 D-, 3 D+, 4 GND, Shell Shield
text: USB 2.0 Type A

## 614004135023
designator J?
USB 2.0 Type A Vertical WR-COM; Part Number: 614004135023; Interface Type: Type A; Sub-Family: USB 2.0; Gender: Receptacle; ComponentLink1Description: Manufacturer; ComponentLink1URL: http://www.we-online.de; ComponentLink2Description: Datasheet; ComponentLink2URL: http://katalog.we-online.de/em/datasheet/614004135023.pdf; Published Date: April 2017; Publisher: Wurth Elektronik; Type: Vertical; Construction: THT
footprint 614004135023 (USB 2.0 Type A Vertical)
pins: 1 VCC, 2 D-, 3 D+, 4 GND, Shell Shield
text: USB 2.0 Type A

## 614004184726
designator J?
USB 2.0 Type A Up Right THT WR-COM; Part Number: 614004184726; Interface Type: Type A; Sub-Family: USB 2.0; Gender: Receptacle; ComponentLink1Description: Manufacturer; ComponentLink1URL: http://www.we-online.de; ComponentLink2Description: Datasheet; ComponentLink2URL: http://katalog.we-online.de/em/datasheet/614004184726.pdf; Published Date: April 2017; Publisher: Wurth Elektronik; Type: Up Right - Short Type; Construction: THT
footprint 614004184726 (USB 2.0 Type A Up Right THT)
pins: 1 VCC, 2 D-, 3 D+, 4 GND, Shell Shield
text: USB 2.0 Type A

## 614004185023
designator J?
USB 2.0 Type A Vertical Short Type THT WR-COM; Part Number: 614004185023; Interface Type: Type A; Sub-Family: USB 2.0; Gender: Receptacle; ComponentLink1Description: Manufacturer; ComponentLink1URL: http://www.we-online.de; ComponentLink2Description: Datasheet; ComponentLink2URL: http://katalog.we-online.de/em/datasheet/614004185023.pdf; Published Date: April 2017; Publisher: Wurth Elektronik; Type: Vertical - Short Type; Construction: THT
footprint 614004185023 (USB 2.0 Type A Vertical Short Type THT)
pins: 1 VCC, 2 D-, 3 D+, 4 GND, Shell Shield
text: USB 2.0 Type A

## 614004190021
designator J?
USB 2.0 Type A Horizontal THT WR-COM; Part Number: 614004190021; Interface Type: Type A; Sub-Family: USB 2.0; Gender: Receptacle; ComponentLink1Description: Manufacturer; ComponentLink1URL: http://www.we-online.de; ComponentLink2Description: Datasheet; ComponentLink2URL: http://katalog.we-online.de/em/datasheet/614004190021.pdf; Published Date: April 2017; Publisher: Wurth Elektronik; Type: Horizontal; Construction: THT
footprint 614004190021 (USB 2.0 Type A Horizontal THT)
pins: 1 VCC, 2 D-, 3 D+, 4 GND, Shell Shield
text: USB 2.0 Type A

## 614008235023
designator J?
USB 2.0 Type A Vertical Dual WR-COM; Part Number: 614008235023; Interface Type: Type A; Sub-Family: USB 2.0; Gender: Receptacle; ComponentLink1Description: Manufacturer; ComponentLink1URL: http://www.we-online.de; ComponentLink2Description: Datasheet; ComponentLink2URL: http://katalog.we-online.de/em/datasheet/614008235023.pdf; Published Date: April 2017; Publisher: Wurth Elektronik; Type: Stacked Vertical; Construction: THT
footprint 614008235023 (USB 2.0 Type A Vertical Dual)
pins: A1 VCC, A2 D-, A3 D+, A4 GND, B1 VCC, B2 D-, B3 D+, B4 GND, Shell Shield
text: Part 1; Part 2; USB 2.0 Type A

## 614104150121
designator J?
USB 2.0 THT Type A Horizontal Slim Type WR-COM; Part Number: 614104150121; Interface Type: Type A; Sub-Family: USB 2.0; Gender: Receptacle; ComponentLink1Description: Manufacturer; ComponentLink1URL: http://www.we-online.de; ComponentLink2Description: Datasheet; ComponentLink2URL: http://katalog.we-online.de/em/datasheet/614104150121.pdf; Published Date: April 2017; Publisher: Wurth Elektronik; Type: Horizontal - Short Type; Construction: THT
footprint 614104150121 (USB 2.0 THT Type A Horizontal Slim Type)
pins: 1 VCC, 2 D-, 3 D+, 4 GND, Shell Shield
text: USB 2.0 Type A

## 614104190121
designator J?
USB 2.0 Type A Horizontal THT Short Type WR-COM; Part Number: 614104190121; Interface Type: Type A; Sub-Family: USB 2.0; Gender: Receptacle; ComponentLink1Description: Manufacturer; ComponentLink1URL: http://www.we-online.de; ComponentLink2Description: Datasheet; ComponentLink2URL: http://katalog.we-online.de/em/datasheet/614104190121.pdf; Published Date: April 2017; Publisher: Wurth Elektronik; Type: Horizontal - Short Type; Construction: THT
footprint 614104190121 (USB 2.0 Type A Horizontal THT Short Type)
pins: 1 VCC, 2 D-, 3 D+, 4 GND, Shell Shield
text: USB 2.0 Type A

## 614105150621
designator J?
Micro USB 2.0 Type AB Vertical 5 Contacts WR-COM; Part Number: 614105150621; Interface Type: Type AB; Gender: Receptacle; ComponentLink1Description: Manufacturer; ComponentLink1URL: http://www.we-online.de; ComponentLink2Description: Datasheet; ComponentLink2URL: http://katalog.we-online.de/em/datasheet/614105150621.pdf; Published Date: April 2017; Publisher: Wurth Elektronik; Sub-Family: Micro USB 2.0; Type: Vertical; Construction: THT
footprint 614105150621 (Micro USB 2.0 Type AB Vertical 5 Contacts)
pins: 1 VCC, 2 D-, 3 D+, 4 ID, 5 GND, Shell Shield

## 614105150721
designator J?
Micro USB 2.0 Type B Vertical 5 Contacts WR-COM; Part Number: 614105150721; Interface Type: Type B; Gender: Receptacle; ComponentLink1Description: Manufacturer; ComponentLink1URL: http://www.we-online.de; ComponentLink2Description: Datasheet; ComponentLink2URL: http://katalog.we-online.de/em/datasheet/614105150721.pdf; Published Date: April 2017; Publisher: Wurth Elektronik; Sub-Family: Micro USB 2.0; Type: Vertical; Construction: THT
footprint 614105150721 (Micro USB 2.0 Type B Vertical 5 Contacts)
pins: 1 VCC, 2 D-, 3 D+, 4 ID, 5 GND, Shell Shield

## 623310235521
designator J?, comment 1.27 mm_SMD_Vertical_10 pin
Pin Header WR-PHD, pitch 1.27 mm, SMD, Vertical, dual row, 10 pin; Part Number: 623310235521; Rated Current: 1 A; Pin Number: 10; Pitch: 1.27 mm; Working Voltage: 100 VAC; Contact Resistance: 20 mOhm; Insulation Resistance: >1000 MOhm; ComponentLink1Description: Manufacturer; ComponentLink1URL: http://www.we-online.de; ComponentLink2Description: Datasheet; ComponentLink2URL: http://katalog.we-online.de/em/datasheet/623310235521.pdf; Published Date: Jan. 2018; Publisher: Wurth Elektronik; Operating Temperature: -40 to 105 degC; Mounting Technology: SMD; Row Number: Dual; Orientation: Vertical
footprint 623310235521
pins: 1, 2, 3, 4, 5, 6, 7, 8, 9, 10

## 623326235521
designator J?, comment 1.27 mm_SMD_Vertical_26 pin
Pin Header WR-PHD, pitch 1.27 mm, SMD, Vertical, dual row, 26 pin; Part Number: 623326235521; Rated Current: 1 A; Pin Number: 26; Pitch: 1.27 mm; Working Voltage: 100 VAC; Contact Resistance: 20 mOhm; Insulation Resistance: >1000 MOhm; ComponentLink1Description: Manufacturer; ComponentLink1URL: http://www.we-online.de; ComponentLink2Description: Datasheet; ComponentLink2URL: http://katalog.we-online.de/em/datasheet/623326235521.pdf; Published Date: Jan. 2018; Publisher: Wurth Elektronik; Operating Temperature: -40 to 105 degC; Mounting Technology: SMD; Row Number: Dual; Orientation: Vertical
footprint 623326235521
pins: 1, 2, 3, 4, 5, 6, 7, 8, 9, 10, 11, 12, 13, 14, 15, 16, 17, 18, 19, 20, 21, 22, 23, 24, 25, 26

## 623350235521
designator J?, comment 1.27 mm_SMD_Vertical_50 pin
Pin Header WR-PHD, pitch 1.27 mm, SMD, Vertical, dual row, 50 pin; Part Number: 623350235521; Rated Current: 1 A; Pin Number: 50; Pitch: 1.27 mm; Working Voltage: 100 VAC; Contact Resistance: 20 mOhm; Insulation Resistance: >1000 MOhm; ComponentLink1Description: Manufacturer; ComponentLink1URL: http://www.we-online.de; ComponentLink2Description: Datasheet; ComponentLink2URL: http://katalog.we-online.de/em/datasheet/623350235521.pdf; Published Date: Jan. 2018; Publisher: Wurth Elektronik; Operating Temperature: -40 to 105 degC; Mounting Technology: SMD; Row Number: Dual; Orientation: Vertical
footprint 623350235521
pins: 1, 2, 3, 4, 5, 6, 7, 8, 9, 10, 11, 12, 13, 14, 15, 16, 17, 18, 19, 20, 21, 22, 23, 24, 25, 26, 27, 28, 29, 30, 31, 32, 33, 34, 35, 36, 37, 38, 39, 40, 41, 42, 43, 44, 45, 46, 47, 48, 49, 50

## 629004113921
designator J?
USB 2.0 Plug Type A SMT with Clip WR-COM; Part Number: 629004113921; Interface Type: Type A; Sub-Family: USB 2.0; ComponentLink1Description: Manufacturer; ComponentLink1URL: http://www.we-online.de; ComponentLink2Description: Datasheet; ComponentLink2URL: http://katalog.we-online.de/em/datasheet/629004113921.pdf; Published Date: April 2017; Publisher: Wurth Elektronik; Gender: Plug; Type: Horizontal; Construction: SMT
footprint 629004113921 (USB 2.0 Plug Type A SMT with Clip)
pins: 1 VCC, 2 D-, 3 D+, 4 GND, Shell Shield
text: USB 2.0 Type A

## 629104151021
designator J?
USB 2.0 Type A Horizontal SMT with pegs WR-COM; Part Number: 629104151021; Interface Type: Type A; Sub-Family: USB 2.0; Gender: Receptacle; ComponentLink1Description: Manufacturer; ComponentLink1URL: http://www.we-online.de; ComponentLink2Description: Datasheet; ComponentLink2URL: http://katalog.we-online.de/em/datasheet/629104151021.pdf; Published Date: April 2017; Publisher: Wurth Elektronik; Type: Horizontal; Construction: SMT
footprint 629104151021 (USB 2.0 Type A Horizontal SMT with pegs)
pins: 1 VCC, 2 D-, 3 D+, 4 GND, Shell Shield
text: USB 2.0 Type A

## 629104190121
designator J?
USB 2.0 Type A Horizontal SMT Short Type WR-COM; Part Number: 629104190121; Interface Type: Type A; Sub-Family: USB 2.0; Gender: Receptacle; ComponentLink1Description: Manufacturer; ComponentLink1URL: http://www.we-online.de; ComponentLink2Description: Datasheet; ComponentLink2URL: http://katalog.we-online.de/em/datasheet/629104190121.pdf; Published Date: April 2017; Publisher: Wurth Elektronik; Type: Horizontal - Short Type; Construction: SMT
footprint 629104190121 (USB 2.0 Type A Horizontal SMT Short Type)
pins: 1 VCC, 2 D-, 3 D+, 4 GND, Shell Shield
text: USB 2.0 Type A

## 629105136821
designator J?
Micro USB 2.0 SMT Type B Horizontal 5 Contacts WR-COM; Part Number: 629105136821; Interface Type: Type B; Gender: Receptacle; ComponentLink1Description: Manufacturer; ComponentLink1URL: http://www.we-online.de; ComponentLink2Description: Datasheet; ComponentLink2URL: http://katalog.we-online.de/em/datasheet/629105136821.pdf; Published Date: April 2017; Publisher: Wurth Elektronik; Sub-Family: Micro USB 2.0; Type: Horizontal; Construction: SMT
footprint 629105136821 (Micro USB 2.0 SMT Type B Horizontal 5 Contacts)
pins: 1 VCC, 2 D-, 3 D+, 4 ID, 5 GND, Shell Shield

## 629105150521
designator J?
Micro USB 2.0 SMT Type B Horizontal 5 Contacts High Current WR-COM; Part Number: 629105150521; Interface Type: Type B; Gender: Receptacle; ComponentLink1Description: Manufacturer; ComponentLink1URL: http://www.we-online.de; ComponentLink2Description: Datasheet; ComponentLink2URL: http://katalog.we-online.de/em/datasheet/629105150521.pdf; Published Date: April 2017; Publisher: Wurth Elektronik; Sub-Family: Micro USB 2.0; Type: Horizontal; Construction: SMT
footprint 629105150521 (Micro USB 2.0 SMT Type B Horizontal 5 Contacts High Current)
pins: 1 VCC, 2 D-, 3 D+, 4 ID, 5 GND, Shell Shield

## 629105150921
designator J?
Micro USB 2.0 Type AB Horizontal WR-COM; Part Number: 629105150921; Interface Type: Type AB; Gender: Receptacle; ComponentLink1Description: Manufacturer; ComponentLink1URL: http://www.we-online.de; ComponentLink2Description: Datasheet; ComponentLink2URL: http://katalog.we-online.de/em/datasheet/629105150921.pdf; Published Date: April 2017; Publisher: Wurth Elektronik; Sub-Family: Micro USB 2.0; Type: Horizontal; Construction: SMT
footprint 629105150921 (Micro USB 2.0 Type AB Horizontal)
pins: 1 VCC, 2 D-, 3 D+, 4 ID, 5 GND, Shell Shield